# Altium schematic symbol library PIC18F45K22-IP.SchLib: 1 symbol
Pins are listed as number, name and electrical type; pins without a type are passive.

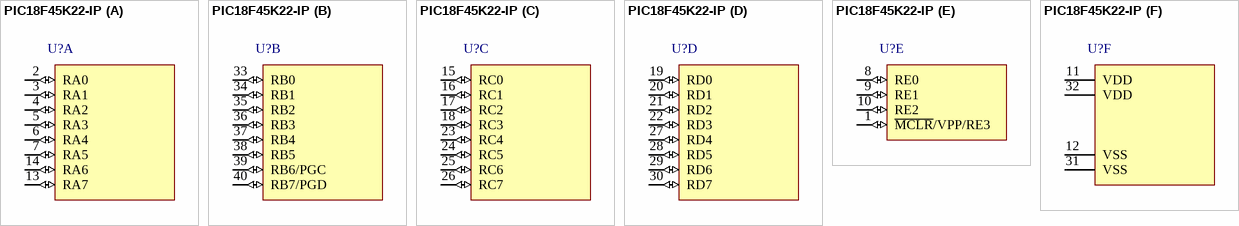
[diagram p0: symbol PIC18F45K22-IP]

## PIC18F45K22-IP
designator U?
part A pins: 2 RA0 (io), 3 RA1 (io), 4 RA2 (io), 5 RA3 (io), 6 RA4 (io), 7 RA5 (io), 13 RA7 (io), 14 RA6 (io)
part B pins: 33 RB0 (io), 34 RB1 (io), 35 RB2 (io), 36 RB3 (io), 37 RB4 (io), 38 RB5 (io), 39 RB6/PGC (io), 40 RB7/PGD (io)
part C pins: 15 RC0 (io), 16 RC1 (io), 17 RC2 (io), 18 RC3 (io), 23 RC4 (io), 24 RC5 (io), 25 RC6 (io), 26 RC7 (io)
part D pins: 19 RD0 (io), 20 RD1 (io), 21 RD2 (io), 22 RD3 (io), 27 RD4 (io), 28 RD5 (io), 29 RD6 (io), 30 RD7 (io)
part E pins: 1 ~{MCLR}/VPP/RE3 (io), 8 RE0 (io), 9 RE1 (io), 10 RE2 (io)
part F pins: 11 VDD (power), 12 VSS (power), 31 VSS (power), 32 VDD (power)